# EAGLE library part MEMORY_HEADER30 (library Memory Breakout Board)
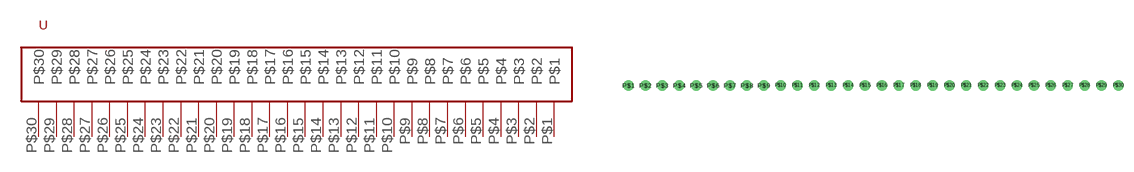
[diagram p1: symbol with the pads of MEMORY_HEADER30; footprint MEMORY_HEADER30]

Designator prefix -

## MEMORY_HEADER30  [MEMORY_HEADER30]
P$1  P$1
P$2  P$2
P$3  P$3
P$4  P$4
P$5  P$5
P$6  P$6
P$7  P$7
P$8  P$8
P$9  P$9
P$10  P$10
P$11  P$11
P$12  P$12
P$13  P$13
P$14  P$14
P$15  P$15
P$16  P$16
P$17  P$17
P$18  P$18
P$19  P$19
P$20  P$20
P$21  P$21
P$22  P$22
P$23  P$23
P$24  P$24
P$25  P$25
P$26  P$26
P$27  P$27
P$28  P$28
P$29  P$29
P$30  P$30

## Footprint MEMORY_HEADER30 (pad centres in mm)
drill 1.02: P$1 -36.83,0; P$2 -34.29,0; P$3 -31.75,0; P$4 -29.21,0; P$5 -26.67,0; P$6 -24.13,0; P$7 -21.59,0; P$8 -19.05,0; P$9 -16.51,0; P$10 -13.97,0; P$11 -11.43,0; P$12 -8.89,0; P$13 -6.35,0; P$14 -3.81,0; P$15 -1.27,0; P$16 1.27,0; P$17 3.81,0; P$18 6.35,0; P$19 8.89,0; P$20 11.43,0; P$21 13.97,0; P$22 16.51,0; P$23 19.05,0; P$24 21.59,0; P$25 24.13,0; P$26 26.67,0; P$27 29.21,0; P$28 31.75,0; P$29 34.29,0; P$30 36.83,0